# Altium footprint library Microchip.PcbLib: 1 footprints
Each footprint in its own frame and in the unit in brackets; x right, y up, seen from the top. Pads: shape width x height; smd on the part's side, far side on the other; paste and mask are expansions set on the pad; w line width, h text height; cw(c..) or ccw(c..) is an arc to the next point about the centre after c.
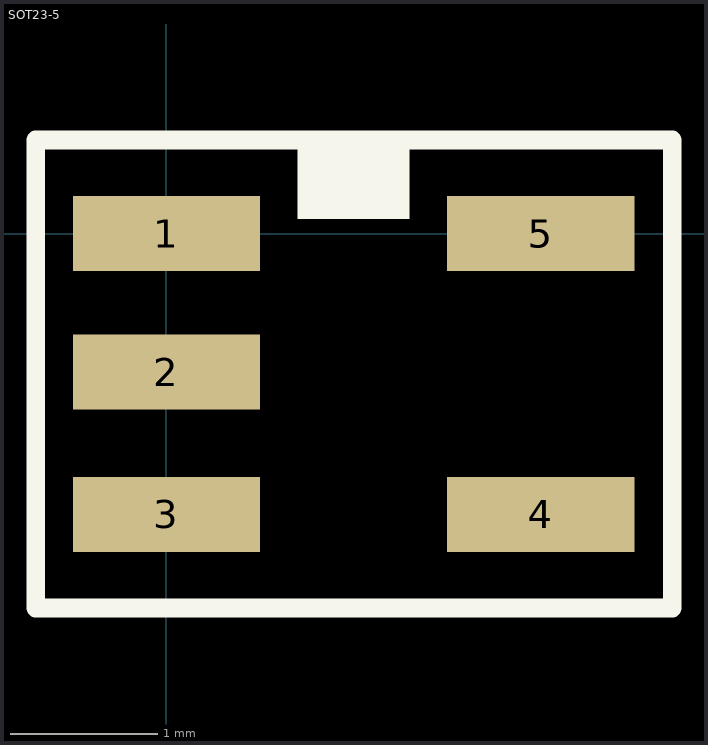
[diagram p0: the footprint, top view; thin cyan lines are the x and y axes]

## SOT23-5 [mil]
pads (5):
  rect 50x20 smd: 1(0,0) 2(0,-37) 3(0,-75) 4(100,-75) 5(100,0)
Top Overlay:
  rectangle: 35,3.94 65,23.62
  lines w5: -34.88,11.02 -34.88,12.02 ; -34.88,15.02 -34.88,25.02 ; -20.88,25.02 -18.88,25.02 ; -19.88,25.02 -34.88,25.02 ; -34.88,25.02 135.12,25.02 135.12,-99.98 -34.88,-99.98 -34.88,25.02
3D body: height 52.18, standoff 51.18, extent 31.02,3.02 40.98,13
3D body: height 8.66, standoff 0, extent 89,-8 98,8
3D body: height 24.41, standoff 0, extent 82.5,-8 91.5,8
3D body: height 24.41, standoff 15.75, extent 76,-8 83,8
3D body: height 8.66, standoff 0, extent 89,-83 98,-67
3D body: height 24.41, standoff 0, extent 82.5,-83 91.5,-67
3D body: height 24.41, standoff 15.75, extent 76,-83 83,-67
3D body: height 8.66, standoff 0, extent 2,-83 11,-67
3D body: height 24.41, standoff 0, extent 8.5,-83 17.5,-67
3D body: height 24.41, standoff 15.75, extent 17,-83 24,-67
3D body: height 8.66, standoff 0, extent 2,-45 11,-29
3D body: height 24.41, standoff 0, extent 8.5,-45 17.5,-29
3D body: height 24.41, standoff 15.75, extent 17,-45 24,-29
3D body: height 24.41, standoff 15.75, extent 17,-8 24,8
3D body: height 24.41, standoff 0, extent 8.5,-8 17.5,8
3D body: height 8.66, standoff 0, extent 2,-8 11,8
3D body: height 51.18, standoff 3.94, extent 24,-95 76,20